# Altium footprint library GCT_USB4135-GF-A_REVA.PcbLib: 1 footprints
Each footprint in its own frame and in the unit in brackets; x right, y up, seen from the top. Pads: shape width x height; smd on the part's side, far side on the other; paste and mask are expansions set on the pad; w line width, h text height; cw(c..) or ccw(c..) is an arc to the next point about the centre after c.
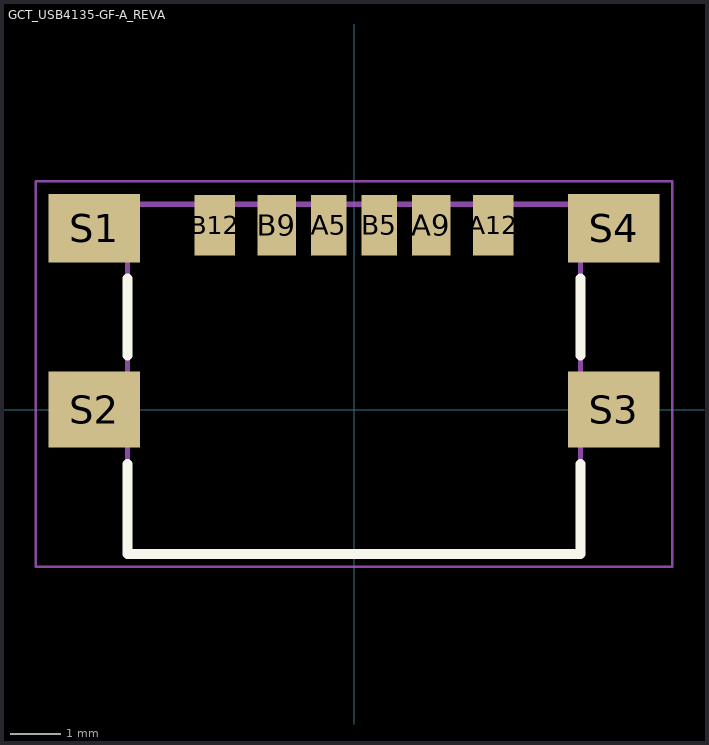
[diagram p0: the footprint, top view; thin cyan lines are the x and y axes]

## GCT_USB4135-GF-A_REVA [mm]
height 3.25
pads (10):
  rect 0.7x1.2 smd: A5(-0.5,3.635) B5(0.5,3.635)
  rect 0.76x1.2 smd: A9(1.52,3.635) B9(-1.52,3.635)
  rect 0.8x1.2 smd: A12(2.75,3.635) B12(-2.75,3.635)
  rect 1.8x1.35 smd: S1(-5.125,3.58) S4(5.125,3.58)
  rect 1.8x1.5 smd: S2(-5.125,0) S3(5.125,0)
Top Overlay:
  lines w0.2: -4.47,-1.07 -4.47,-2.85 4.47,-2.85 4.47,-1.07 ; -4.47,1.07 -4.47,2.585 ; 4.47,1.07 4.47,2.585
Mechanical 13:
  lines w0.1: -4.47,-2.85 -4.47,4.05 4.47,4.05 4.47,-2.85 -4.47,-2.85
Mechanical 15:
  lines w0.05: -6.275,-3.1 -6.275,4.505 6.275,4.505 6.275,-3.1 -6.275,-3.1
3D body "step_temp.STEP": height 3.25, standoff 0, extent -5.57,-2.85 5.57,4.05